# Altium schematic symbol library LAN8720A-CP-ABC.SchLib: 1 symbol
Pins are listed as number, name and electrical type; pins without a type are passive.

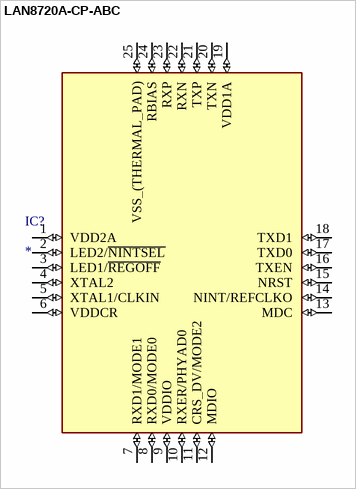
[diagram p0: symbol LAN8720A-CP-ABC]

## LAN8720A-CP-ABC
designator IC?
2/2 Transceiver Full MII, RMII 24-SQFN (4x4); MF: Microchip; MP: LAN8720A-CP-TR-ABC; SnapEDA_Link: https://www.snapeda.com/parts/LAN8720A-CP-TR-ABC/Microchip+Technology/view-part/?ref=snap; Package: VFQFN-24 Microchip Technology; Value: *; Check_prices: https://www.snapeda.com/parts/LAN8720A-CP-TR-ABC/Microchip+Technology/view-part/?ref=eda
footprint QFN50P400X400X100-25N
pins: 1 VDD2A (io), 2 LED2/~{NINTSEL} (io), 3 LED1/~{REGOFF} (io), 4 XTAL2 (io), 5 XTAL1/CLKIN (io), 6 VDDCR (io), 7 RXD1/MODE1 (io), 8 RXD0/MODE0 (io), 9 VDDIO (io), 10 RXER/PHYAD0 (io), 11 CRS_DV/MODE2 (io), 12 MDIO (io), 13 MDC (io), 14 NINT/REFCLKO (io), 15 NRST (io), 16 TXEN (io), 17 TXD0 (io), 18 TXD1 (io), 19 VDD1A (io), 20 TXN (io), 21 TXP (io), 22 RXN (io), 23 RXP (io), 24 RBIAS (io), 25 VSS_(THERMAL_PAD) (io)